# Altium schematic symbol library DAC8411.SchLib: 1 symbol
Pins are listed as number, name and electrical type; pins without a type are passive.

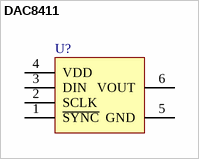
[diagram p0: symbol DAC8411]

## DAC8411
designator U?  (value not drawn)
pins: 1 ~{SYNC}, 2 SCLK, 3 DIN, 4 VDD, 5 GND, 6 VOUT